# Altium schematic symbol library diode_x2_series.SchLib: 1 symbol
Pins are listed as number, name and electrical type; pins without a type are passive.

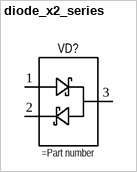
[diagram p0: symbol diode_x2_series]

## diode_x2_series
designator VD?
pins: 1, 2, 3